# EAGLE library part IZ1215S (library DC-DC Converter)
DC DC CONVERTER +/-15V 3W Manufacturer's datasheet <https://www.xppower.com/portals/0/pdfs/SF_IZ.pdf>
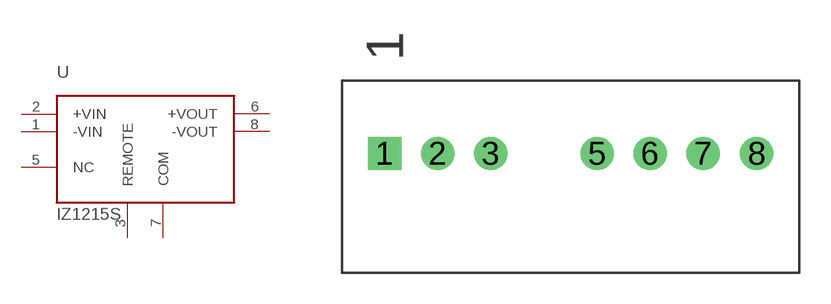
[diagram p1: symbol with the pads of IZ1215S; footprint IZ1215S]

Designator prefix U

## IZ1215S (CREATED_BY: PCBLayout.com; DIGIKEY_PN: 1470-1642-5-ND; MANUFACTURER: XP Power; MPN: IZ1215S; PACKAGE: 8-SIP Module)  [IZ1215S]
1  -VIN  in
2  +VIN  in
3  REMOTE  pwr
5  NC  pas
6  +VOUT  out
7  COM  pwr
8  -VOUT  out

## Footprint IZ1215S (pad centres in mm)
drill 0.8 pad 1.6 square: 1 -8.9,0
drill 0.8 pad 1.6: 2 -6.36,0; 3 -3.82,0; 5 1.26,0; 6 3.8,0; 7 6.34,0; 8 8.9,0